# EAGLE library part PI3523-00-LGIZ (library PI3523-00-LGIZ_TGLee)
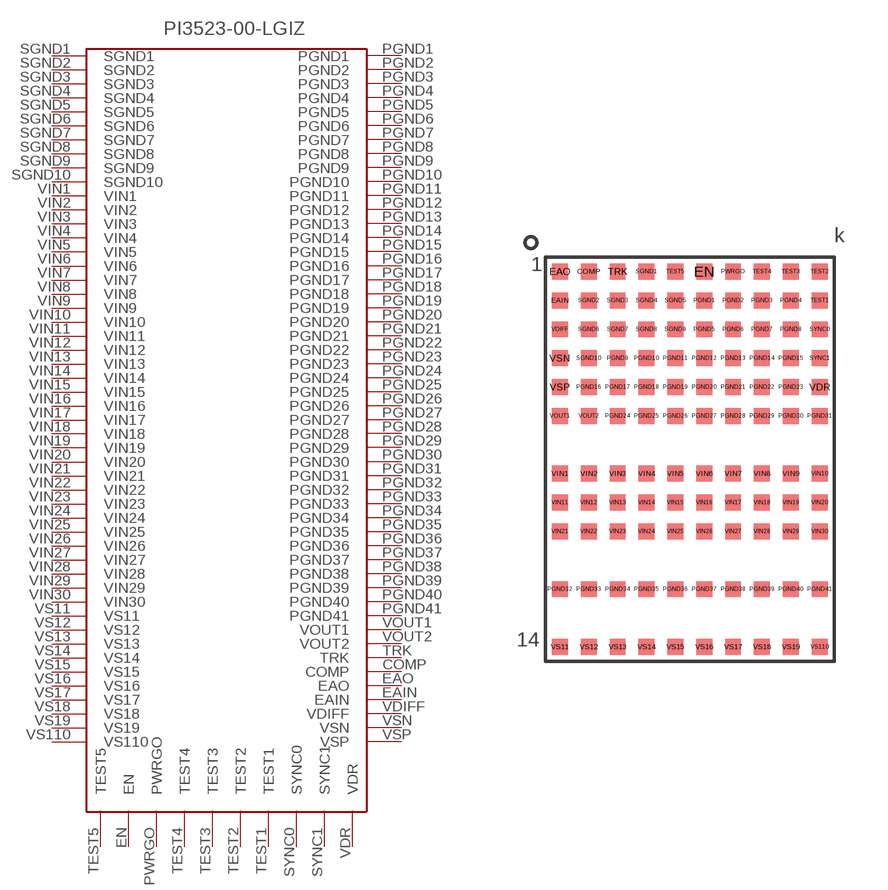
[diagram p0: symbol with the pads of PI3523-00-LGIZ; footprint PI3523-00-LGIZ]

Designator prefix -

## PI3523-00-LGIZ  [PI3523-00-LGIZ]
COMP  COMP
EAIN  EAIN
EAO  EAO
EN  EN
PGND1  PGND1
PGND2  PGND2
PGND3  PGND3
PGND4  PGND4
PGND5  PGND5
PGND6  PGND6
PGND7  PGND7
PGND8  PGND8
PGND9  PGND9
PGND10  PGND10
PGND11  PGND11
PGND12  PGND12
PGND13  PGND13
PGND14  PGND14
PGND15  PGND15
PGND16  PGND16
PGND17  PGND17
PGND18  PGND18
PGND19  PGND19
PGND20  PGND20
PGND21  PGND21
PGND22  PGND22
PGND23  PGND23
PGND24  PGND24
PGND25  PGND25
PGND26  PGND26
PGND27  PGND27
PGND28  PGND28
PGND29  PGND29
PGND30  PGND30
PGND31  PGND31
PGND32  PGND32
PGND33  PGND33
PGND34  PGND34
PGND35  PGND35
PGND36  PGND36
PGND37  PGND37
PGND38  PGND38
PGND39  PGND39
PGND40  PGND40
PGND41  PGND41
PWRGO  PWRGO
SGND1  SGND1
SGND2  SGND2
SGND3  SGND3
SGND4  SGND4
SGND5  SGND5
SGND6  SGND6
SGND7  SGND7
SGND8  SGND8
SGND9  SGND9
SGND10  SGND10
SYNC0  SYNC0
SYNC1  SYNC1
TEST1  TEST1
TEST2  TEST2
TEST3  TEST3
TEST4  TEST4
TEST5  TEST5
TRK  TRK
VDIFF  VDIFF
VDR  VDR
VIN1  VIN1
VIN2  VIN2
VIN3  VIN3
VIN4  VIN4
VIN5  VIN5
VIN6  VIN6
VIN7  VIN7
VIN8  VIN8
VIN9  VIN9
VIN10  VIN10
VIN11  VIN11
VIN12  VIN12
VIN13  VIN13
VIN14  VIN14
VIN15  VIN15
VIN16  VIN16
VIN17  VIN17
VIN18  VIN18
VIN19  VIN19
VIN20  VIN20
VIN21  VIN21
VIN22  VIN22
VIN23  VIN23
VIN24  VIN24
VIN25  VIN25
VIN26  VIN26
VIN27  VIN27
VIN28  VIN28
VIN29  VIN29
VIN30  VIN30
VOUT1  VOUT1
VOUT2  VOUT2
VS11  VS11
VS12  VS12
VS13  VS13
VS14  VS14
VS15  VS15
VS16  VS16
VS17  VS17
VS18  VS18
VS19  VS19
VS110  VS110
VSN  VSN
VSP  VSP

## Footprint PI3523-00-LGIZ (pad centres in mm)
smd 0.55 x 0.55: COMP 1,0; EAIN 0,-1; EAO 0,0; EN 5,0; PGND1 5,-1; PGND2 6,-1; PGND3 7,-1; PGND4 8,-1; PGND5 5,-2; PGND6 6,-2; PGND7 7,-2; PGND8 8,-2; PGND9 2,-3; PGND10 3,-3; PGND11 4,-3; PGND12 5,-3; PGND13 6,-3; PGND14 7,-3; PGND15 8,-3; PGND16 1,-4; PGND17 2,-4; PGND18 3,-4; PGND19 4,-4; PGND20 5,-4; PGND21 6,-4; PGND22 7,-4; PGND23 8,-4; PGND24 2,-5; PGND25 3,-5; PGND26 4,-5; PGND27 5,-5; PGND28 6,-5; PGND29 7,-5; PGND30 8,-5; PGND31 9,-5; PGND32 0,-11; PGND33 1,-11; PGND34 2,-11; PGND35 3,-11; PGND36 4,-11; PGND37 5,-11; PGND38 6,-11; PGND39 7,-11; PGND40 8,-11; PGND41 9,-11; PWRGO 6,0; SGND1 3,0; SGND2 1,-1; SGND3 2,-1; SGND4 3,-1; SGND5 4,-1; SGND6 1,-2; SGND7 2,-2; SGND8 3,-2; SGND9 4,-2; SGND10 1,-3; SYNC0 9,-2; SYNC1 9,-3; TEST1 9,-1; TEST2 9,0; TEST3 8,0; TEST4 7,0; TEST5 4,0; TRK 2,0; VDIFF 0,-2; VDR 9,-4; VIN1 0,-7; VIN2 1,-7; VIN3 2,-7; VIN4 3,-7; VIN5 4,-7; VIN6 5,-7; VIN7 6,-7; VIN8 7,-7; VIN9 8,-7; VIN10 9,-7; VIN11 0,-8; VIN12 1,-8; VIN13 2,-8; VIN14 3,-8; VIN15 4,-8; VIN16 5,-8; VIN17 6,-8; VIN18 7,-8; VIN19 8,-8; VIN20 9,-8; VIN21 0,-9; VIN22 1,-9; VIN23 2,-9; VIN24 3,-9; VIN25 4,-9; VIN26 5,-9; VIN27 6,-9; VIN28 7,-9; VIN29 8,-9; VIN30 9,-9; VOUT1 0,-5; VOUT2 1,-5; VS11 0,-13; VS12 1,-13; VS13 2,-13; VS14 3,-13; VS15 4,-13; VS16 5,-13; VS17 6,-13; VS18 7,-13; VS19 8,-13; VS110 9,-13; VSN 0,-3; VSP 0,-4